# Altium footprint library SOJ-44.PcbLib: 1 footprints
Each footprint in its own frame and in the unit in brackets; x right, y up, seen from the top. Pads: shape width x height; smd on the part's side, far side on the other; paste and mask are expansions set on the pad; w line width, h text height; cw(c..) or ccw(c..) is an arc to the next point about the centre after c.
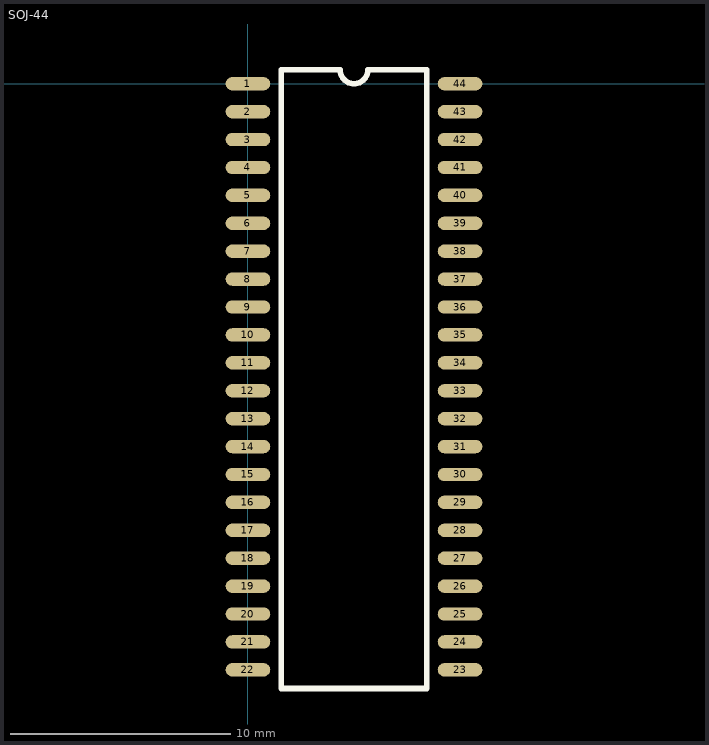
[diagram p0: the footprint, top view; thin cyan lines are the x and y axes]

## SOJ-44 [mil]
pads (44):
  oval 80x24 smd: 1(0,0) 2(0,-50) 3(0,-100) 4(0,-150) 5(0,-200) 6(0,-250) 7(0,-300) 8(0,-350) 9(0,-400) 10(0,-450) 11(0,-500) 12(0,-550) 13(0,-600) 14(0,-650) 15(0,-700) 16(0,-750) 17(0,-800) 18(0,-850) 19(0,-900) 20(0,-950) 21(0,-1000) 22(0,-1050) 23(380,-1050) 24(380,-1000) 25(380,-950) 26(380,-900) 27(380,-850) 28(380,-800) 29(380,-750) 30(380,-700) 31(380,-650) 32(380,-600) 33(380,-550) 34(380,-500) 35(380,-450) 36(380,-400) 37(380,-350) 38(380,-300) 39(380,-250) 40(380,-200) 41(380,-150) 42(380,-100) 43(380,-50) 44(380,0)
TopOverlay:
  lines w10: 60,-1083.46 320,-1083.46 320,25 215,25 cw(c190,25) 165,25 60,25 60,-1083.46